# Altium integrated library ultrazohm_digital_voltage_3U_1vxx.IntLib: 19 symbols
Pins are listed as number, name and electrical type; pins without a type are passive.

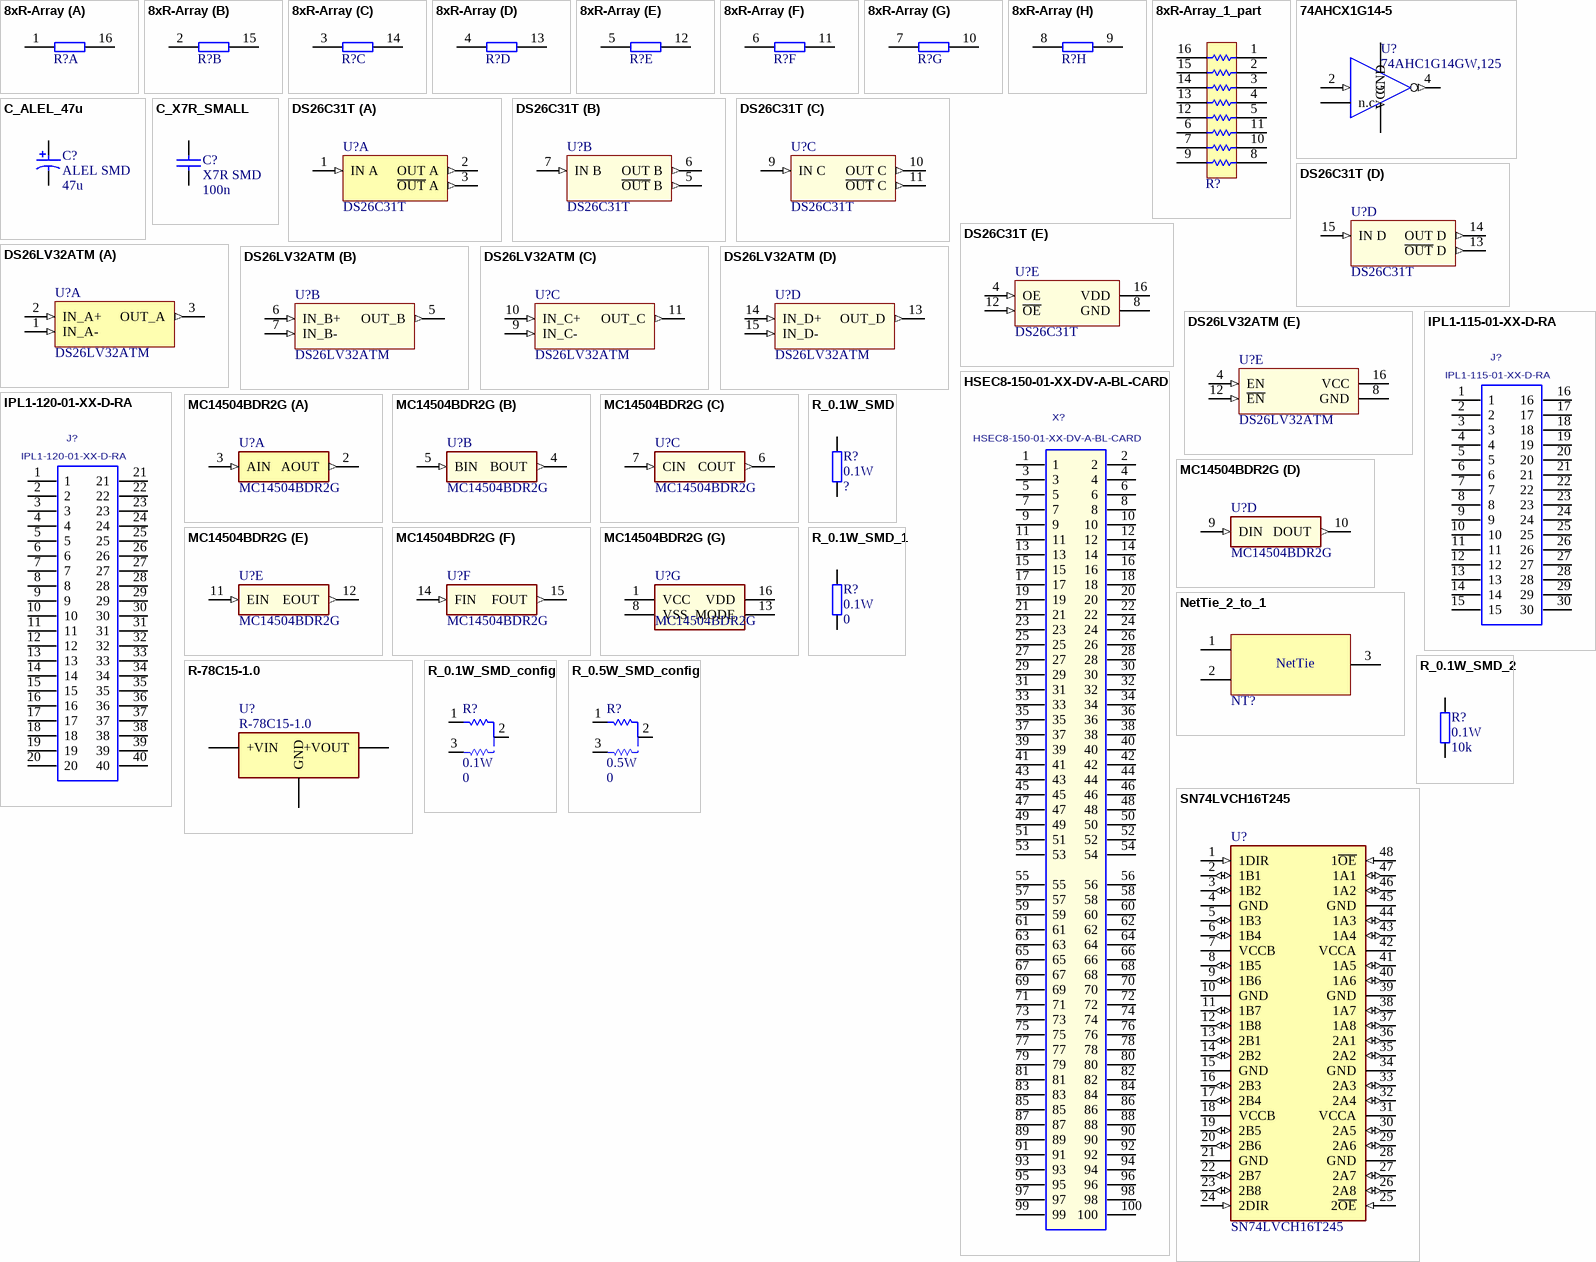
[diagram p0: symbols 8xR-Array to SN74LVCH16T245]

## 8xR-Array
designator R?, comment 0.063W  (value not drawn)
Standard thick film resistor array with 8 resistors; Manufacturer1: Panasonic; MPN1: EXB2HV<2dig_res+#zeros><tol/jumper>V; Parameter1: V; Parameter1Desc: Package Method; Parameter2: J; Parameter2Desc: Tolerance Symbol; MaxVoltage: 100; Created: 2020-01-03_Thilo_Wendt; Supplier1: https://de.farnell.com/w/search?range=inc-in-stock&st=exb2hv; HelpURL: https://www.mouser.de/datasheet/2/315/AOC0000C14-1108062.pdf; Parameter3: *; Parameter3Desc: *; ComponentLink1Description: Datasheet; ComponentLink1URL: https://www.mouser.de/datasheet/2/315/AOC0000C14-1108062.pdf; ComponentLink2Description: Landpattern; ComponentLink2URL: https://industrial.panasonic.com/cdbs/www-data/pdf/AOC0000/AOC0000COL4.pdf
footprint RESCAXE-50P380X160X45-16N (Chip Array, ConvexE, 16-Leads, Pitch 0,50mm,  Body 3,80x1,60mm,  IPC Medium Density)
part A pins: 1, 16
part B pins: 2, 15
part C pins: 3, 14
part D pins: 4, 13
part E pins: 5, 12
part F pins: 6, 11
part G pins: 7, 10
part H pins: 8, 9

## 8xR-Array_1_part
designator R?, comment 0.063W  (value not drawn)
Standard thick film resistor array with 8 resistors; Manufacturer1: Panasonic; MPN1: EXB2HV<2dig_res+#zeros><tol/jumper>V; Parameter1: V; Parameter1Desc: Package Method; Parameter2: J; Parameter2Desc: Tolerance Symbol; MaxVoltage: 100; Created: 2020-01-03_Thilo_Wendt; Supplier1: https://de.farnell.com/w/search?range=inc-in-stock&st=exb2hv; HelpURL: https://www.mouser.de/datasheet/2/315/AOC0000C14-1108062.pdf; Parameter3: *; Parameter3Desc: *; ComponentLink1Description: Datasheet; ComponentLink1URL: https://www.mouser.de/datasheet/2/315/AOC0000C14-1108062.pdf; ComponentLink2Description: Landpattern; ComponentLink2URL: https://industrial.panasonic.com/cdbs/www-data/pdf/AOC0000/AOC0000COL4.pdf
footprint RESCAXE-50P380X160X45-16N (Chip Array, ConvexE, 16-Leads, Pitch 0,50mm,  Body 3,80x1,60mm,  IPC Medium Density)
pins: 1, 2, 3, 4, 5, 6, 7, 8, 9, 10, 11, 12, 13, 14, 15, 16

## 74AHCX1G14-5
designator U?, comment 74AHC1G14GW,125
Inverting Schmitt trigger for 2 V to 5.5 V; Manufacturer: Nexperia; Created: 2018_09_06_AGeiger; Supplier 1: Digi-Key; Value: 74AHC1G14GW,125; Supplier Part Number 1: 1727-3149-2-ND; Supplier 2: Mouser; Supplier Part Number 2: 771-74AHC1G14GW-G; ComponentLink1URL: https://www.mouser.de/datasheet/2/916/74AHC_AHCT1G14-1319577.pdf; ComponentLink1Description: Datasheet; Supplier 3: Farnell; Supplier Part Number 3: 2336684
footprint NXP-SOT353-1_N (TSSOP, 5-Leads, Body 2.25x1.35mm, Pitch 0.65mm, IPC Medium Density)
pins: 1 n.c., 2 A (in) "data input", 3 GND (power), 4 ~{Y} (out) "data output", 5 VCC (power)

## C_ALEL_47u
designator C?, comment ALEL SMD  value 47u
Standard Aluminium electrolyt capacitor.; Manufacturer1: Panasonic; MPN1: EEE1VA470P; MaxVoltage: 35; Created: 2019-12-13_Thilo_Wendt; Supplier1: https://de.farnell.com/panasonic/eee1va470p/kondensator-47-f-35v-radial-smd/dp/2326181?st=EEE1VA470P; HelpURL: https://industrial.panasonic.com/cdbs/www-data/pdf/RDE0000/ABA0000C1145.pdf; ComponentLink1Description: Datasheet; ComponentLink1URL: https://industrial.panasonic.com/cdbs/www-data/pdf/RDE0000/ABA0000C1145.pdf
footprint CAPAE9583X66L (ELKO Panasonic S-Series, V-Type, Size E, High Density)
footprint CAPAE9583X66M (ELKO Panasonic S-Series, V-Type, Size E, Low Density)
footprint CAPAE9583X66N (ELKO Panasonic S-Series, V-Type, Size E, Medium Density)
pins: 1, 2

## C_X7R_SMALL
designator C?, comment X7R SMD  value 100n
Standard X7R SMD capacitor. This kind of dielectricum should be used for decoupling applications. Bigger capacity is available but not for the given voltage rating.; Manufacturer1: KEMET; MPN1: C0805C104K3RACTU; Parameter1: 3; Parameter1Desc: Voltage Symbol; Parameter2: K; Parameter2Desc: Tolerance Symbol; MaxVoltage: 100; MinCap: 10p; Created: 2019-12-08_Thilo_Wendt; Supplier1: https://de.farnell.com/w/c/passive-bauelemente/kondensatoren/keramikkondensatoren/keramik-vielschichtkondensatoren-mlcc-smd?brand=kemet&kapazitatstoleranz=posneg-10pc&dielektrikum=x7r; HelpURL: https://content.kemet.com/datasheets/KEM_C1002_X7R_SMD.pdf; Parameter3: *; Parameter3Desc: *; MaxCap: 100n; ComponentLink1Description: Datasheet; ComponentLink1URL: https://content.kemet.com/datasheets/KEM_C1002_X7R_SMD.pdf
footprint CAPC1608X95X40ML15T15 (Chip Capacitor, 2-Leads, Body 1.60x0.80mm, IPC Low Density)
footprint CAPC1608X95X40NL15T15 (Chip Capacitor, 2-Leads, Body 1.60x0.80mm, IPC Medium Density)
footprint CAPC2013X140X50LL15T20 (Chip Capacitor, 2-Leads, Body 2.00x1.25mm, IPC High Density)
footprint CAPC2013X140X50ML15T20 (Chip Capacitor, 2-Leads, Body 2.00x1.25mm, IPC Low Density)
footprint CAPC2013X140X50NL15T20 (Chip Capacitor, 2-Leads, Body 2.00x1.25mm, IPC Medium Density)
footprint CAPC3216X180X50LL20T25 (Chip Capacitor, 2-Leads, Body 3.20x1.60mm, IPC High Density)
footprint CAPC3216X180X50ML20T25 (Chip Capacitor, 2-Leads, Body 3.20x1.60mm, IPC Low Density)
footprint CAPC3216X180X50NL20T25 (Chip Capacitor, 2-Leads, Body 3.20x1.60mm, IPC Medium Density)
footprint CAPC3225X280X50LL40T25 (Chip Capacitor, 2-Leads, Body 3.20x2.50mm, IPC High Density)
footprint CAPC3225X280X50ML40T25 (Chip Capacitor, 2-Leads, Body 3.20x2.50mm, IPC Low Density)
footprint CAPC3225X280X50NL40T25 (Chip Capacitor, 2-Leads, Body 3.20x2.50mm, IPC Medium Density)
footprint CAPC1608X95X40LL15T15 (Chip Capacitor, 2-Leads, Body 1.60x0.80mm, IPC High Density)
pins: 1, 2

## DS26C31T
designator U?
CMOS Quad Tri-State Differential Line Drivers, 16-pin Narrow SOIC, Pb-Free; MPN1: DS26C31TM/NOPB; MF1: Texas Instruments; SPN1: 1468967; Max Voltage: 5.5; Created: 2019-12-16_Thilo_Wendt; HelpURL: http://www.ti.com/general/docs/lit/getliterature.tsp?genericPartNumber=DS26C31T&fileType=pdf; Supplier1: Farnell; Value: DS26C31T; ComponentLink1Description: Datasheet; ComponentLink1URL: http://www.ti.com/general/docs/lit/getliterature.tsp?genericPartNumber=DS26C31T&fileType=pdf
footprint TI_D-R-PDSO-G16_L (SOIC, 16-Leads, Body 10x4mm, Pitch 1.27mm, IPC High Density)
footprint TI_D-R-PDSO-G16_M (SOIC, 16-Leads, Body 10x4mm, Pitch 1.27mm, IPC Low Density)
footprint TI_D-R-PDSO-G16_N (SOIC, 16-Leads, Body 10x4mm, Pitch 1.27mm, IPC Medium Density)
part A pins: 1 IN A (in), 2 OUT A (out), 3 ~{OUT} A (out)
part B pins: 5 ~{OUT} B (out), 6 OUT B (out), 7 IN B (in)
part C pins: 9 IN C (in), 10 OUT C (out), 11 ~{OUT} C (out)
part D pins: 13 ~{OUT} D (out), 14 OUT D (out), 15 IN D (in)
part E pins: 4 OE (in), 8 GND (power), 12 ~{OE} (in), 16 VDD (power)

## DS26LV32ATM
designator U?
3V Enhanced CMOS Quad Differential Line Receiver, 16-pin Narrow SOIC, Pb-Free; MF1: Texas Instruments; Max Voltage: 3.6; SPN1: 1468999; ComponentLink1URL: http://www.ti.com/general/docs/lit/getliterature.tsp?genericPartNumber=DS26LV32AT&fileType=pdf; ComponentLink1Description: Datasheet; Created: 2020-01-03_Thilo_Wendt; HelpURL: http://www.ti.com/general/docs/lit/getliterature.tsp?genericPartNumber=DS26LV32AT&fileType=pdf; MPN1: DS26LV32ATM; Supplier1: Farnell; Value: DS26LV32ATM
footprint TI_D-R-PDSO-G16_L (SOIC, 16-Leads, Body 10x4mm, Pitch 1.27mm, IPC High Density)
footprint TI_D-R-PDSO-G16_M (SOIC, 16-Leads, Body 10x4mm, Pitch 1.27mm, IPC Low Density)
footprint TI_D-R-PDSO-G16_N (SOIC, 16-Leads, Body 10x4mm, Pitch 1.27mm, IPC Medium Density)
part A pins: 1 IN_A- (in), 2 IN_A+ (in), 3 OUT_A (out)
part B pins: 5 OUT_B (out), 6 IN_B+ (in), 7 IN_B- (in)
part C pins: 9 IN_C- (in), 10 IN_C+ (in), 11 OUT_C (out)
part D pins: 13 OUT_D (out), 14 IN_D+ (in), 15 IN_D- (in)
part E pins: 4 EN (in), 8 GND (power), 12 ~{EN} (in), 16 VCC (power)

## HSEC8-150-01-XX-DV-A-BL-CARD
designator X?
Mating Card Layout for HSEC8-150-01-XX-DV-A-BL; Manufacturer: SAMTEC; Created: 2018_04_23_AGeiger; Value: HSEC8-150-01-XX-DV-A-BL-CARD
footprint HSEC8-150-01-XX-DV-A-BL-CARD
pins: 1, 2, 3, 4, 5, 6, 7, 8, 9, 10, 11, 12, 13, 14, 15, 16, 17, 18, 19, 20, 21, 22, 23, 24, 25, 26, 27, 28, 29, 30, 31, 32, 33, 34, 35, 36, 37, 38, 39, 40, 41, 42, 43, 44, 45, 46, 47, 48, 49, 50, 51, 52, 53, 54, 55, 56, 57, 58, 59, 60, 61, 62, 63, 64, 65, 66, 67, 68, 69, 70, 71, 72, 73, 74, 75, 76, 77, 78, 79, 80, 81, 82, 83, 84, 85, 86, 87, 88, 89, 90, 91, 92, 93, 94, 95, 96, 97, 98, 99, 100

## IPL1-115-01-XX-D-RA
designator J?
Terminal Assembly, Double Row, Right Angle, Thru-Hole, 0.100" x 0.100" Pitch, 30 Pins.; MPN1: IPL1-115-01-L-D-RA-K; MF1: SAMTEC; SPN1: 2018467; Created: 2019-12-17_Wendy_Xin; HelpURL: https://www.samtec.com/products/ipl1; ComponentLink1Description: Datasheet; ComponentLink1URL: http://suddendocs.samtec.com/catalog_english/ipl1.pdf; Supplier1: Farnell
footprint IPL1-115-01-XX-D-RA
pins: 1, 2, 3, 4, 5, 6, 7, 8, 9, 10, 11, 12, 13, 14, 15, 16, 17, 18, 19, 20, 21, 22, 23, 24, 25, 26, 27, 28, 29, 30

## IPL1-120-01-XX-D-RA
designator J?
Terminal Assembly, Double Row, Right Angle, Thru-Hole, 0.100" x 0.100" Pitch, 40 Pins.; MPN1: IPL1-120-01-L-D-RA-K; MF1: SAMTEC; SPN1: 2018484; Created: 2019-07-18_Wendy Xin; Supplier1: Farnell; HelpURL: https://www.samtec.com/products/ipl1
footprint IPL1-120-01-XX-D-RA
pins: 1, 2, 3, 4, 5, 6, 7, 8, 9, 10, 11, 12, 13, 14, 15, 16, 17, 18, 19, 20, 21, 22, 23, 24, 25, 26, 27, 28, 29, 30, 31, 32, 33, 34, 35, 36, 37, 38, 39, 40

## MC14504BDR2G
designator U?
6 Channel 5V to 15V level shifter; Manufacturer1: ON Semiconductor; SPN1: 863-MC14504BDR2G; SPN2: 7737746P; Max Voltage: 18; MPN1: MC14504BDR2G; Supplier1: https://www.mouser.com/Search/Refine.aspx?Keyword=863-MC14504BDR2G; Supplier2: http://uk.rs-online.com/web/p/products/7737746P; Created: 2019-12-11_Thilo_Wendt; HelpURL: http://www.onsemi.com/pub/Collateral/MC14504B-D.PDF; Value: MC14504BDR2G
footprint SOIC127P600X175-16N
part A pins: 2 AOUT (out), 3 AIN (in)
part B pins: 4 BOUT (out), 5 BIN (in)
part C pins: 6 COUT (out), 7 CIN (in)
part D pins: 9 DIN (in), 10 DOUT (out)
part E pins: 11 EIN (in), 12 EOUT (out)
part F pins: 14 FIN (in), 15 FOUT (out)
part G pins: 1 VCC (power), 8 VSS (power), 13 MODE, 16 VDD (power)

## NetTie_2_to_1
designator NT?  (value not drawn)  (net tie, no BOM)
Created: 2020-01-03_Thilo_Wendt
footprint 2_to_1_NetTie_0.3mm (Net Tie with 0.3mm pad width)
footprint 2_to_1_NetTie_0.5mm (Net Tie with 0.5mm pad width)
footprint 2_to_1_NetTie_1mm (Net Tie with 1mm pad width)
footprint 2_to_1_NETTIE_TH (Net tie to merge 2 nets on different layers)
pins: 1, 2, 3
text: NetTie

## R-78C15-1.0
designator U?
Swichting Regulator Power Supply with integrated inductor.; Manufacturer1: RECOM Power; MPN1: R-78C<OutputVoltage>-1.0; MinVoltage: 18; MaxVoltage: 42; OutputVoltage: 15; HelpURL: https://www.recom-power.com/pdf/Innoline/R-78Cxx-1.0.pdf; Created: 2019-12-11_Thilo_Wendt; Value: R-78C15-1.0; ComponentLink1Description: Datasheet; ComponentLink1URL: https://www.recom-power.com/pdf/Innoline/R-78Cxx-1.0.pdf
footprint R78C1510
pins: 1 +VIN (power), 2 GND, 3 +VOUT (power)

## R_0.1W_SMD
designator R?, comment 0.1W
Standard thick film resistor; Manufacturer1: Panasonic; MPN1: ERJU<pkg><tol><val><pkg_meth>; Parameter1: V; Parameter1Desc: Package Method; Parameter2: F; Parameter2Desc: Tolerance Symbol; MaxVoltage: 100; Created: 2019-12-08_Thilo_Wendt; Supplier1: https://de.farnell.com/w/search?qualifizierungsstandard-der-automobilindustrie=aec-q200&range=inc-in-stock&st=erju; HelpURL: https://www.mouser.de/datasheet/2/315/AOA0000C334-1314047.pdf; Parameter3: *; Parameter3Desc: *; ComponentLink1Description: Datasheet; ComponentLink1URL: https://www.mouser.de/datasheet/2/315/AOA0000C334-1314047.pdf; Value: ?
footprint RESC1608X55X30LL15T15 (Chip Resistor, 2-Leads, Body 1.75x0.95mm, IPC High Density)
footprint RESC1608X55X30ML15T15 (Chip Resistor, 2-Leads, Body 1.75x0.95mm, IPC Low Density)
footprint RESC1608X55X30NL15T15 (Chip Resistor, 2-Leads, Body 1.75x0.95mm, IPC Medium Density)
footprint RESC2013X70X40LL20T20 (Chip Resistor, 2-Leads, Body 2.2x1.35mm, IPC High Density)
footprint RESC2013X70X40ML20T20 (Chip Resistor, 2-Leads, Body 2.2x1.35mm, IPC Low Density)
footprint RESC2013X70X40NL20T20 (Chip Resistor, 2-Leads, Body 2.2x1.35mm, IPC Medium Density)
footprint RESC3216X70X50LL20T25 (Chip Resistor, 2-Leads, Body 3.20x1.60mm, IPC High Density)
footprint RESC3216X70X50ML20T25 (Chip Resistor, 2-Leads, Body 3.20x1.60mm, IPC Low Density)
footprint RESC3216X70X50NL20T25 (Chip Resistor, 2-Leads, Body 3.20x1.60mm, IPC Medium Density)
footprint RESC3225X70X50LL20T20 (Chip Resistor, 2-Leads, Body 3.20x2.50mm, IPC High Density)
footprint RESC3225X70X50ML20T20 (Chip Resistor, 2-Leads, Body 3.20x2.50mm, IPC Low Density)
footprint RESC3225X70X50NL20T20 (Chip Resistor, 2-Leads, Body 3.20x2.50mm, IPC Medium Density)
pins: 1, 2

## R_0.1W_SMD_1
designator R?, comment 0.1W  value 0
Standard thick film resistor; Manufacturer1: Panasonic; MPN1: ERJ-U030R00V; Parameter1: V; Parameter1Desc: Package Method; Parameter2: F; Parameter2Desc: Tolerance Symbol; Parameter3: U03; Parameter3Desc: Package Symbol; MaxVoltage: 100; Created: 2019-12-08_Thilo_Wendt; Supplier1: https://de.farnell.com/w/search?qualifizierungsstandard-der-automobilindustrie=aec-q200&range=inc-in-stock&st=erju; HelpURL: https://www.mouser.de/datasheet/2/315/AOA0000C334-1314047.pdf; ComponentLink1Description: Datasheet; ComponentLink1URL: https://www.mouser.de/datasheet/2/315/AOA0000C334-1314047.pdf
footprint RESC1608X55X30LL15T15 (Chip Resistor, 2-Leads, Body 1.75x0.95mm, IPC High Density)
footprint RESC1608X55X30ML15T15 (Chip Resistor, 2-Leads, Body 1.75x0.95mm, IPC Low Density)
footprint RESC1608X55X30NL15T15 (Chip Resistor, 2-Leads, Body 1.75x0.95mm, IPC Medium Density)
footprint RESC2013X70X40LL20T20 (Chip Resistor, 2-Leads, Body 2.2x1.35mm, IPC High Density)
footprint RESC2013X70X40ML20T20 (Chip Resistor, 2-Leads, Body 2.2x1.35mm, IPC Low Density)
footprint RESC2013X70X40NL20T20 (Chip Resistor, 2-Leads, Body 2.2x1.35mm, IPC Medium Density)
footprint RESC3216X70X50LL20T25 (Chip Resistor, 2-Leads, Body 3.20x1.60mm, IPC High Density)
footprint RESC3216X70X50ML20T25 (Chip Resistor, 2-Leads, Body 3.20x1.60mm, IPC Low Density)
footprint RESC3216X70X50NL20T25 (Chip Resistor, 2-Leads, Body 3.20x1.60mm, IPC Medium Density)
footprint RESC3225X70X50LL20T20 (Chip Resistor, 2-Leads, Body 3.20x2.50mm, IPC High Density)
footprint RESC3225X70X50ML20T20 (Chip Resistor, 2-Leads, Body 3.20x2.50mm, IPC Low Density)
footprint RESC3225X70X50NL20T20 (Chip Resistor, 2-Leads, Body 3.20x2.50mm, IPC Medium Density)
pins: 1, 2

## R_0.1W_SMD_2
designator R?, comment 0.1W  value 10k
Standard thick film resistor; Manufacturer1: Panasonic; MPN1: ERJU<pkg><tol><val><pkg_meth>; Parameter1: V; Parameter1Desc: Package Method; Parameter2: F; Parameter2Desc: Tolerance Symbol; MaxVoltage: 100; Created: 2019-12-08_Thilo_Wendt; Supplier1: https://de.farnell.com/w/search?qualifizierungsstandard-der-automobilindustrie=aec-q200&range=inc-in-stock&st=erju; HelpURL: https://www.mouser.de/datasheet/2/315/AOA0000C334-1314047.pdf; Parameter3: *; Parameter3Desc: *
footprint RESC1608X55X30LL15T15 (Chip Resistor, 2-Leads, Body 1.75x0.95mm, IPC High Density)
footprint RESC1608X55X30ML15T15 (Chip Resistor, 2-Leads, Body 1.75x0.95mm, IPC Low Density)
footprint RESC1608X55X30NL15T15 (Chip Resistor, 2-Leads, Body 1.75x0.95mm, IPC Medium Density)
footprint RESC2013X70X40LL20T20 (Chip Resistor, 2-Leads, Body 2.2x1.35mm, IPC High Density)
footprint RESC2013X70X40ML20T20 (Chip Resistor, 2-Leads, Body 2.2x1.35mm, IPC Low Density)
footprint RESC2013X70X40NL20T20 (Chip Resistor, 2-Leads, Body 2.2x1.35mm, IPC Medium Density)
footprint RESC3216X70X50LL20T25 (Chip Resistor, 2-Leads, Body 3.20x1.60mm, IPC High Density)
footprint RESC3216X70X50ML20T25 (Chip Resistor, 2-Leads, Body 3.20x1.60mm, IPC Low Density)
footprint RESC3216X70X50NL20T25 (Chip Resistor, 2-Leads, Body 3.20x1.60mm, IPC Medium Density)
footprint RESC3225X70X50LL20T20 (Chip Resistor, 2-Leads, Body 3.20x2.50mm, IPC High Density)
footprint RESC3225X70X50ML20T20 (Chip Resistor, 2-Leads, Body 3.20x2.50mm, IPC Low Density)
footprint RESC3225X70X50NL20T20 (Chip Resistor, 2-Leads, Body 3.20x2.50mm, IPC Medium Density)
pins: 1, 2

## R_0.1W_SMD_config
designator R?, comment 0.1W  value 0
Solder resistor/jumper between pads 1 and 2 for standard function. Solder resistor between pads 2 and 3 for alternative function; Manufacturer1: Panasonic; MPN1: ERJU<pkg><tol><val><pkg_meth>; Parameter1: V; Parameter1Desc: Package Method; Parameter2: F; Parameter2Desc: Tolerance Symbol; MaxVoltage: 100; Created: 2018_09_04_AGeiger; Supplier1: https://de.farnell.com/w/search?qualifizierungsstandard-der-automobilindustrie=aec-q200&range=inc-in-stock&st=erju; HelpURL: https://www.mouser.de/datasheet/2/315/AOA0000C334-1314047.pdf; Parameter3: *; Parameter3Desc: *; ComponentLink1Description: Datasheet; ComponentLink1URL: https://www.mouser.de/datasheet/2/315/AOA0000C334-1314047.pdf
footprint RESC1608X55X30NL15T15_CONFIG (0603 3-Pin Config Footprint)
footprint RESC3216X70X50LL20T25_CONFIG (1206 3-Pin Config Footprint)
pins: 1, 2, 3

## R_0.5W_SMD_config
designator R?, comment 0.5W  value 0
Solder resistor/jumper between pads 1 and 2 for standard function. Solder resistor between pads 2 and 3 for alternative function; Manufacturer1: Panasonic; MPN1: ERJU<pkg><tol><val><pkg_meth>; Parameter1: V; Parameter1Desc: Package Method; Parameter2: F; Parameter2Desc: Tolerance Symbol; MaxVoltage: 100; Created: 2018_09_04_AGeiger; Supplier1: https://de.farnell.com/w/search?qualifizierungsstandard-der-automobilindustrie=aec-q200&range=inc-in-stock&st=erju; HelpURL: https://www.mouser.de/datasheet/2/315/AOA0000C334-1314047.pdf; Parameter3: *; Parameter3Desc: *; ComponentLink1Description: Datasheet; ComponentLink1URL: https://www.mouser.de/datasheet/2/315/AOA0000C334-1314047.pdf
footprint RESC3216X70X50LL20T25_CONFIG (1206 3-Pin Config Footprint)
pins: 1, 2, 3

## SN74LVCH16T245
designator U?
Direction controlled 16 channel level shifter with active driver. Voltage range 1.8V to 5V.; Manufacturer1: Texas Instruments; SPN1: 595-SN74LVCH16T245GR; SPN2: 8143916P; Max Voltage: 5.5; Created: 2019-12-11_Thilo_Wendt; HelpURL: http://www.ti.com/lit/gpn/sn74lvch16t245; MPN1: SN74LVCH16T245; Supplier1: https://www.mouser.com/Search/Refine.aspx?Keyword=595-SN74LVCH16T245GR; Supplier2: http://uk.rs-online.com/web/p/products/8143916P; Value: SN74LVCH16T245
footprint TI_DGG-R-PDSO-G48N
footprint TI_DL-R-PDSO-G48_L (Texas Instruments SSOP, 48-Leads, Body 7.6x16mm, Pitch 0.635mm, IPC High Density)
footprint TI_DL-R-PDSO-G48_M (Texas Instruments SSOP, 48-Leads, Body 7.6x16mm, Pitch 0.635mm, IPC Low Density)
footprint TI_DL-R-PDSO-G48_N (Texas Instruments SSOP, 48-Leads, Body 7.6x16mm, Pitch 0.635mm, IPC Medium Density)
pins: 1 1DIR (in), 2 1B1 (io), 3 1B2 (io), 4 GND (power), 5 1B3 (io), 6 1B4 (io), 7 VCCB (power), 8 1B5 (io), 9 1B6 (io), 10 GND (power), 11 1B7 (io), 12 1B8 (io), 13 2B1 (io), 14 2B2 (io), 15 GND (power), 16 2B3 (io), 17 2B4 (io), 18 VCCB (power), 19 2B5 (io), 20 2B6 (io), 21 GND (power), 22 2B7 (io), 23 2B8 (io), 24 2DIR (in), 25 2~{OE} (in), 26 2A8 (io), 27 2A7 (io), 28 GND (power), 29 2A6 (io), 30 2A5 (io), 31 VCCA (power), 32 2A4 (io), 33 2A3 (io), 34 GND (power), 35 2A2 (io), 36 2A1 (io), 37 1A8 (io), 38 1A7 (io), 39 GND (power), 40 1A6 (io), 41 1A5 (io), 42 VCCA (power), 43 1A4 (io), 44 1A3 (io), 45 GND (power), 46 1A2 (io), 47 1A1 (io), 48 1~{OE} (in)